# Altium integrated library TI Data Converters Digital to Analog Converter.IntLib: 1533 symbols (part 32 of 99)
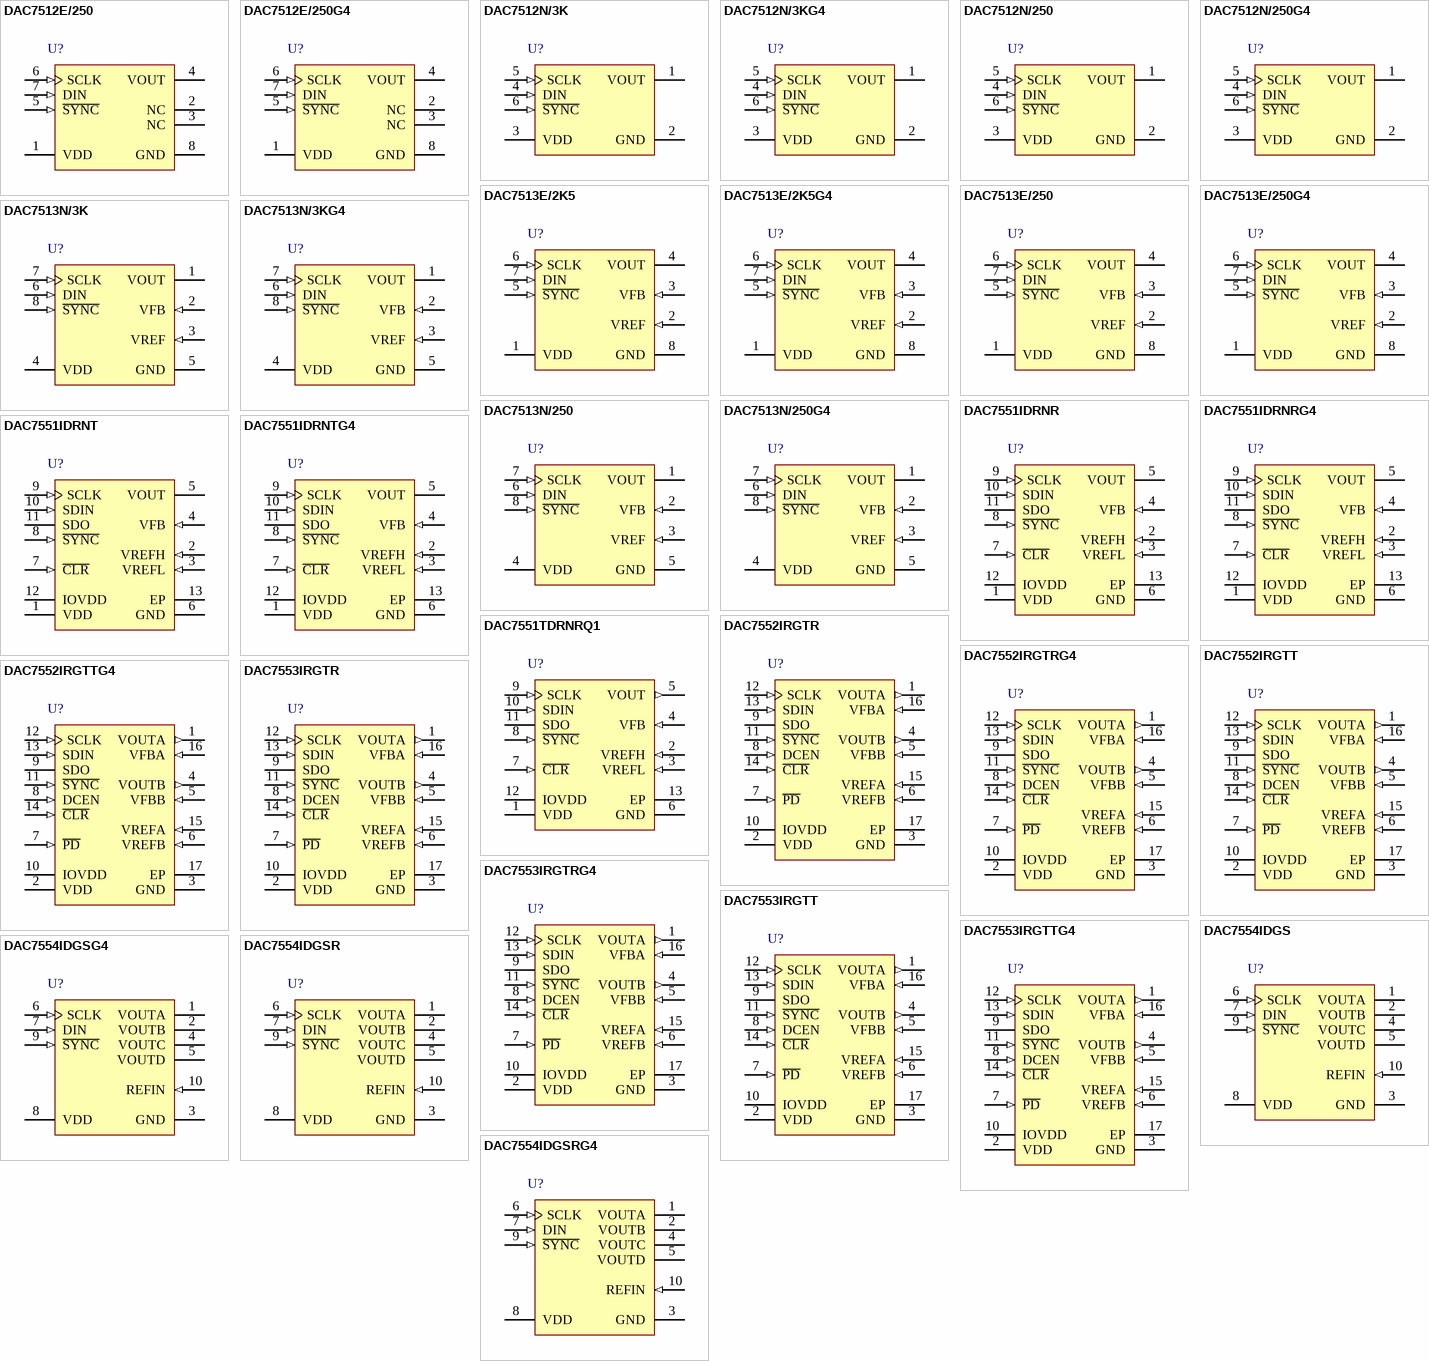
[diagram p104: symbols DAC7512E/250 to DAC7554IDGSRG4]

## DAC7551IDRNR
designator U?
12-Bit, Ultralow Glitch, Voltage Output DAC, -40 to 105 degC, 12-pin SON (DRN12), Green (RoHS & no Sb/Br); Manufacturer: Texas Instruments; PartNumber: DAC7551IDRNR; DAC Channels: 1; DNL(Max)(+/-LSB): 0.5; Interface: Serial SPI; Power Consumption(Typ)(mW): 0.27; Resolution(Bits): 12; Settling Time(us): 5; SubFamily: Precision DAC (=<10MSPS); DatasheetVersion: SLAS441E; PackageVersion: 4205915/B, 05/2005; PackageReference: DRN12-2300X900TP; PackageDescription: 12-Pin Plastic Small Outline, Body 3 x 2 mm, Pitch 0.5 mm; Supplier 1: Digi-Key; Supplier Part Number 1: DAC7551IDRNR-ND; Supplier 2: Mouser; Supplier Part Number 2: 595-DAC7551IDRNR; Eco-Plan: Green (RoHS & no Sb/Br); INL(Max)(+/-LSB): 1; Mounting Technology: Surface Mount; Code_JEDEC: MO-229; ComponentLink1Description: Manufacturer URL; ComponentLink1URL: http://www.ti.com/; ComponentLink2Description: Datasheet; ComponentLink2URL: http://www.ti.com/general/docs/lit/getliterature.tsp?genericPartNumber=DAC7551&fileType=pdf; ComponentLink3Description: Package Specification; ComponentLink3URL: http://www.ti.com/litv/pdf/mpds165a
footprint TI-DRN12-2300X900TP_V (SON, 12-Leads, Body 3x2mm, Pitch 0.5mm, Thermal Pad 2.3x0.9mm)
pins: 1 VDD (power) "Analog voltage supply input", 2 VREFH (in) "Positive reference voltage input", 3 VREFL (in) "Negative reference voltage input", 4 VFB (in) "DAC amplifier sense input.", 5 VOUT (hiz) "Analog output voltage from DAC", 6 GND (power) "Ground.", 7 ~{CLR} (in) "Asynchronous input to clear the DAC registers. When C\L\R\ is low, the DAC register is set to 000h and the output voltage to 0V.", 8 ~{SYNC} (in) "Frame synchronization input. The falling edge of the S\Y\N\C\ pulse indicates the start of a serial data frame shifted out to the DAC7551.", 9 SCLK (in) "Serial clock input", 10 SDIN (in) "Serial data input", 11 SDO (hiz) "Serial data output", 12 IOVDD (power) "I/O voltage supply input", 13 EP (power) "Thermal pad should be connected to GND"

## DAC7551IDRNRG4
designator U?
12-Bit, Ultralow Glitch, Voltage Output DAC, -40 to 105 degC, 12-pin SON (DRN12), Green (RoHS & no Sb/Br); Manufacturer: Texas Instruments; PartNumber: DAC7551IDRNRG4; DAC Channels: 1; DNL(Max)(+/-LSB): 0.5; Interface: Serial SPI; Power Consumption(Typ)(mW): 0.27; Resolution(Bits): 12; Settling Time(us): 5; SubFamily: Precision DAC (=<10MSPS); DatasheetVersion: SLAS441E; PackageVersion: 4205915/B, 05/2005; PackageReference: DRN12-2300X900TP; PackageDescription: 12-Pin Plastic Small Outline, Body 3 x 2 mm, Pitch 0.5 mm; Supplier 1: Digi-Key; Supplier Part Number 1: DAC7551IDRNRG4-ND; Supplier 2: Mouser; Supplier Part Number 2: 595-DAC7551IDRNRG4; Eco-Plan: Green (RoHS & no Sb/Br); INL(Max)(+/-LSB): 1; Mounting Technology: Surface Mount; Code_JEDEC: MO-229; ComponentLink1Description: Manufacturer URL; ComponentLink1URL: http://www.ti.com/; ComponentLink2Description: Datasheet; ComponentLink2URL: http://www.ti.com/general/docs/lit/getliterature.tsp?genericPartNumber=DAC7551&fileType=pdf; ComponentLink3Description: Package Specification; ComponentLink3URL: http://www.ti.com/litv/pdf/mpds165a
footprint TI-DRN12-2300X900TP_V (SON, 12-Leads, Body 3x2mm, Pitch 0.5mm, Thermal Pad 2.3x0.9mm)
pins: 1 VDD (power) "Analog voltage supply input", 2 VREFH (in) "Positive reference voltage input", 3 VREFL (in) "Negative reference voltage input", 4 VFB (in) "DAC amplifier sense input.", 5 VOUT (hiz) "Analog output voltage from DAC", 6 GND (power) "Ground.", 7 ~{CLR} (in) "Asynchronous input to clear the DAC registers. When C\L\R\ is low, the DAC register is set to 000h and the output voltage to 0V.", 8 ~{SYNC} (in) "Frame synchronization input. The falling edge of the S\Y\N\C\ pulse indicates the start of a serial data frame shifted out to the DAC7551.", 9 SCLK (in) "Serial clock input", 10 SDIN (in) "Serial data input", 11 SDO (hiz) "Serial data output", 12 IOVDD (power) "I/O voltage supply input", 13 EP (power) "Thermal pad should be connected to GND"

## DAC7551IDRNT
designator U?
12-Bit, Ultralow Glitch, Voltage Output DAC, -40 to 105 degC, 12-pin SON (DRN12), Green (RoHS & no Sb/Br); Manufacturer: Texas Instruments; PartNumber: DAC7551IDRNT; DAC Channels: 1; DNL(Max)(+/-LSB): 0.5; Interface: Serial SPI; Power Consumption(Typ)(mW): 0.27; Resolution(Bits): 12; Settling Time(us): 5; SubFamily: Precision DAC (=<10MSPS); DatasheetVersion: SLAS441E; PackageVersion: 4205915/B, 05/2005; PackageReference: DRN12-2300X900TP; PackageDescription: 12-Pin Plastic Small Outline, Body 3 x 2 mm, Pitch 0.5 mm; Supplier 1: Digi-Key; Supplier Part Number 1: 296-18583-2-ND; Supplier 2: Digi-Key; Supplier Part Number 2: 296-18583-1-ND; Supplier 3: Digi-Key; Supplier Part Number 3: 296-18583-6-ND; Supplier 4: Newark; Supplier Part Number 4: 60K9170; Supplier 5: Mouser; Supplier Part Number 5: 595-DAC7551IDRNT; Eco-Plan: Green (RoHS & no Sb/Br); INL(Max)(+/-LSB): 1; Mounting Technology: Surface Mount; Code_JEDEC: MO-229; ComponentLink1Description: Manufacturer URL; ComponentLink1URL: http://www.ti.com/; ComponentLink2Description: Datasheet; ComponentLink2URL: http://www.ti.com/general/docs/lit/getliterature.tsp?genericPartNumber=DAC7551&fileType=pdf; ComponentLink3Description: Package Specification; ComponentLink3URL: http://www.ti.com/litv/pdf/mpds165a
footprint TI-DRN12-2300X900TP_V (SON, 12-Leads, Body 3x2mm, Pitch 0.5mm, Thermal Pad 2.3x0.9mm)
pins: 1 VDD (power) "Analog voltage supply input", 2 VREFH (in) "Positive reference voltage input", 3 VREFL (in) "Negative reference voltage input", 4 VFB (in) "DAC amplifier sense input.", 5 VOUT (hiz) "Analog output voltage from DAC", 6 GND (power) "Ground.", 7 ~{CLR} (in) "Asynchronous input to clear the DAC registers. When C\L\R\ is low, the DAC register is set to 000h and the output voltage to 0V.", 8 ~{SYNC} (in) "Frame synchronization input. The falling edge of the S\Y\N\C\ pulse indicates the start of a serial data frame shifted out to the DAC7551.", 9 SCLK (in) "Serial clock input", 10 SDIN (in) "Serial data input", 11 SDO (hiz) "Serial data output", 12 IOVDD (power) "I/O voltage supply input", 13 EP (power) "Thermal pad should be connected to GND"

## DAC7551IDRNTG4
designator U?
12-Bit, Ultralow Glitch, Voltage Output DAC, -40 to 105 degC, 12-pin SON (DRN12), Green (RoHS & no Sb/Br); Manufacturer: Texas Instruments; PartNumber: DAC7551IDRNTG4; DAC Channels: 1; DNL(Max)(+/-LSB): 0.5; Interface: Serial SPI; Power Consumption(Typ)(mW): 0.27; Resolution(Bits): 12; Settling Time(us): 5; SubFamily: Precision DAC (=<10MSPS); DatasheetVersion: SLAS441E; PackageVersion: 4205915/B, 05/2005; PackageReference: DRN12-2300X900TP; PackageDescription: 12-Pin Plastic Small Outline, Body 3 x 2 mm, Pitch 0.5 mm; Supplier 1: Digi-Key; Supplier Part Number 1: DAC7551IDRNTG4-ND; Supplier 2: Farnell; Supplier Part Number 2: 1379267; Supplier 3: Newark; Supplier Part Number 3: 61M5732; Supplier 4: Mouser; Supplier Part Number 4: 595-DAC7551IDRNTG4; Eco-Plan: Green (RoHS & no Sb/Br); INL(Max)(+/-LSB): 1; Mounting Technology: Surface Mount; Code_JEDEC: MO-229; ComponentLink1Description: Manufacturer URL; ComponentLink1URL: http://www.ti.com/; ComponentLink2Description: Datasheet; ComponentLink2URL: http://www.ti.com/general/docs/lit/getliterature.tsp?genericPartNumber=DAC7551&fileType=pdf; ComponentLink3Description: Package Specification; ComponentLink3URL: http://www.ti.com/litv/pdf/mpds165a
footprint TI-DRN12-2300X900TP_V (SON, 12-Leads, Body 3x2mm, Pitch 0.5mm, Thermal Pad 2.3x0.9mm)
pins: 1 VDD (power) "Analog voltage supply input", 2 VREFH (in) "Positive reference voltage input", 3 VREFL (in) "Negative reference voltage input", 4 VFB (in) "DAC amplifier sense input.", 5 VOUT (hiz) "Analog output voltage from DAC", 6 GND (power) "Ground.", 7 ~{CLR} (in) "Asynchronous input to clear the DAC registers. When C\L\R\ is low, the DAC register is set to 000h and the output voltage to 0V.", 8 ~{SYNC} (in) "Frame synchronization input. The falling edge of the S\Y\N\C\ pulse indicates the start of a serial data frame shifted out to the DAC7551.", 9 SCLK (in) "Serial clock input", 10 SDIN (in) "Serial data input", 11 SDO (hiz) "Serial data output", 12 IOVDD (power) "I/O voltage supply input", 13 EP (power) "Thermal pad should be connected to GND"

## DAC7551TDRNRQ1
designator U?
Automotive Catalog 12-Bit, Ultralow Glitch, Voltage Output DAC, -40 to 105 degC, 12-pin SON (DRN12), Green (RoHS & no Sb/Br); Manufacturer: Texas Instruments; PartNumber: DAC7551TDRNRQ1; DAC Channels: 1; DNL(Max)(+/-LSB): 0.5; Interface: Serial SPI; Power Consumption(Typ)(mW): 0.27; Resolution(Bits): 12; Settling Time(us): 5; SubFamily: Precision DAC (=<10MSPS); DatasheetVersion: SLAS767; PackageVersion: 4205915/B, 05/2005; PackageReference: DRN12-2300X900TP; PackageDescription: 12-Pin Plastic Small Outline, Body 3 x 2 mm, Pitch 0.5 mm; Supplier 1: Digi-Key; Supplier Part Number 1: 296-28954-2-ND; Supplier 2: Digi-Key; Supplier Part Number 2: 296-28954-1-ND; Supplier 3: Digi-Key; Supplier Part Number 3: 296-28954-6-ND; Supplier 4: Mouser; Supplier Part Number 4: 595-DAC7551TDRNRQ1; Eco-Plan: Green (RoHS & no Sb/Br); INL(Max)(+/-LSB): 1; Mounting Technology: Surface Mount; Code_JEDEC: MO-229; ComponentLink1Description: Manufacturer URL; ComponentLink1URL: http://www.ti.com/; ComponentLink2Description: Datasheet; ComponentLink2URL: http://www.ti.com/general/docs/lit/getliterature.tsp?genericPartNumber=DAC7551-Q1&fileType=pdf; ComponentLink3Description: Package Specification; ComponentLink3URL: http://www.ti.com/litv/pdf/mpds165a
footprint TI-DRN12-2300X900TP_V (SON, 12-Leads, Body 3x2mm, Pitch 0.5mm, Thermal Pad 2.3x0.9mm)
pins: 1 VDD (power) "Analog voltage supply input", 2 VREFH (in) "Positive reference voltage input", 3 VREFL (in) "Negative reference voltage input", 4 VFB (in) "DAC amplifier sense input.", 5 VOUT (out) "Analog output voltage from DAC", 6 GND (power) "Ground.", 7 ~{CLR} (in) "Asynchronous input to clear the DAC registers. When C\L\R\ is low, the DAC register is set to 000h and the output voltage to 0V.", 8 ~{SYNC} (in) "Frame synchronization input. The falling edge of the S\Y\N\C\ pulse indicates the start of a serial data frame shifted out to the DAC7551.", 9 SCLK (in) "Serial clock input", 10 SDIN (in) "Serial data input", 11 SDO (hiz) "Serial data output", 12 IOVDD (power) "I/O voltage supply input", 13 EP (power) "Thermal pad should be connected to GND"

## DAC7552IRGTR
designator U?
12-Bit, Dual, Ultralow Glitch, Voltage Output DAC, -40 to 105 degC, 16-pin QFN (RGT), Green (RoHS & no Sb/Br); Manufacturer: Texas Instruments; PartNumber: DAC7552IRGTR; DAC Channels: 2; DNL(Max)(+/-LSB): 0.5; INL(Max)(+/-LSB): 1; Interface: Serial SPI; Power Consumption(Typ)(mW): 0.675; Resolution(Bits): 12; Settling Time(us): 5; SubFamily: Precision DAC (=<10MSPS); DatasheetVersion: SLAS442D; PackageVersion: 4203495/H, 10/2011; PackageReference: RGT16-1700X1700TP; PackageDescription: 16-Pin Plastic Flat Pack, Body 3 x 3 mm, Pitch 0.5 mm; Supplier 1: Digi-Key; Supplier Part Number 1: 296-18222-2-ND; Supplier 2: Digi-Key; Supplier Part Number 2: 296-18222-1-ND; Supplier 3: Digi-Key; Supplier Part Number 3: 296-18222-6-ND; Supplier 4: Farnell; Supplier Part Number 4: 1575123; Supplier 5: Newark; Supplier Part Number 5: 43K3290; Supplier 6: Mouser; Supplier Part Number 6: 595-DAC7552IRGTR; Eco-Plan: Green (RoHS & no Sb/Br); Mounting Technology: Surface Mount; Code_JEDEC: MO-220; ComponentLink1Description: Manufacturer URL; ComponentLink1URL: http://www.ti.com/; ComponentLink2Description: Datasheet; ComponentLink2URL: http://www.ti.com/general/docs/lit/getliterature.tsp?genericPartNumber=DAC7552&fileType=pdf; ComponentLink3Description: Package Specification; ComponentLink3URL: http://www.ti.com/litv/pdf/mpqf119g
footprint TI-RGT16-1700X1700TP_V (QFN, 16-Leads, Body 3x3mm, Pitch 0.5mm, Thermal Pad 1.7x1.7mm)
pins: 1 VOUTA (out) "Analog output voltage from DAC A", 2 VDD (power) "Analog voltage supply input", 3 GND (power) "Ground", 4 VOUTB (out) "Analog output voltage from DAC B", 5 VFBB (in) "DAC B amplifier sense input. (For voltage output operation, connect to VOUTB externally.)", 6 VREFB (in) "Positive reference voltage input for DAC B", 7 ~{PD} (in) "Power-down", 8 DCEN (in) "Daisy-chain enable", 9 SDO (hiz) "Serial data output", 10 IOVDD (power) "I/O voltage supply input. (For single supply operation, connect to VDD externally.)", 11 ~{SYNC} (in) "Frame synchronization input. The falling edge of the S\Y\N\C\ pulse indicates the start of a serial data frame shifted out to the DAC7552", 12 SCLK (in) "Serial clock input", 13 SDIN (in) "Serial data input", 14 ~{CLR} (in) "Asynchronous input to clear the DAC registers. When C\L\R\ is low, the DAC registers are set to 000H and the output voltage to 0 V.", 15 VREFA (in) "Positive reference voltage input for DAC A", 16 VFBA (in) "DAC A amplifier sense input. (For voltage output operation, connect to VOUTA externally.)", 17 EP (power) "Thermal pad should be connected to GND."

## DAC7552IRGTRG4
designator U?
12-Bit, Dual, Ultralow Glitch, Voltage Output DAC, -40 to 105 degC, 16-pin QFN (RGT), Green (RoHS & no Sb/Br); Manufacturer: Texas Instruments; PartNumber: DAC7552IRGTRG4; DAC Channels: 2; DNL(Max)(+/-LSB): 0.5; INL(Max)(+/-LSB): 1; Interface: Serial SPI; Power Consumption(Typ)(mW): 0.675; Resolution(Bits): 12; Settling Time(us): 5; SubFamily: Precision DAC (=<10MSPS); DatasheetVersion: SLAS442D; PackageVersion: 4203495/H, 10/2011; PackageReference: RGT16-1700X1700TP; PackageDescription: 16-Pin Plastic Flat Pack, Body 3 x 3 mm, Pitch 0.5 mm; Supplier 1: Digi-Key; Supplier Part Number 1: DAC7552IRGTRG4-ND; Supplier 2: Mouser; Supplier Part Number 2: 595-DAC7552IRGTRG4; Eco-Plan: Green (RoHS & no Sb/Br); Mounting Technology: Surface Mount; Code_JEDEC: MO-220; ComponentLink1Description: Manufacturer URL; ComponentLink1URL: http://www.ti.com/; ComponentLink2Description: Datasheet; ComponentLink2URL: http://www.ti.com/general/docs/lit/getliterature.tsp?genericPartNumber=DAC7552&fileType=pdf; ComponentLink3Description: Package Specification; ComponentLink3URL: http://www.ti.com/litv/pdf/mpqf119g
footprint TI-RGT16-1700X1700TP_V (QFN, 16-Leads, Body 3x3mm, Pitch 0.5mm, Thermal Pad 1.7x1.7mm)
pins: 1 VOUTA (out) "Analog output voltage from DAC A", 2 VDD (power) "Analog voltage supply input", 3 GND (power) "Ground", 4 VOUTB (out) "Analog output voltage from DAC B", 5 VFBB (in) "DAC B amplifier sense input. (For voltage output operation, connect to VOUTB externally.)", 6 VREFB (in) "Positive reference voltage input for DAC B", 7 ~{PD} (in) "Power-down", 8 DCEN (in) "Daisy-chain enable", 9 SDO (hiz) "Serial data output", 10 IOVDD (power) "I/O voltage supply input. (For single supply operation, connect to VDD externally.)", 11 ~{SYNC} (in) "Frame synchronization input. The falling edge of the S\Y\N\C\ pulse indicates the start of a serial data frame shifted out to the DAC7552", 12 SCLK (in) "Serial clock input", 13 SDIN (in) "Serial data input", 14 ~{CLR} (in) "Asynchronous input to clear the DAC registers. When C\L\R\ is low, the DAC registers are set to 000H and the output voltage to 0 V.", 15 VREFA (in) "Positive reference voltage input for DAC A", 16 VFBA (in) "DAC A amplifier sense input. (For voltage output operation, connect to VOUTA externally.)", 17 EP (power) "Thermal pad should be connected to GND."

## DAC7552IRGTT
designator U?
12-Bit, Dual, Ultralow Glitch, Voltage Output DAC, -40 to 105 degC, 16-pin QFN (RGT), Green (RoHS & no Sb/Br); Manufacturer: Texas Instruments; PartNumber: DAC7552IRGTT; DAC Channels: 2; DNL(Max)(+/-LSB): 0.5; INL(Max)(+/-LSB): 1; Interface: Serial SPI; Power Consumption(Typ)(mW): 0.675; Resolution(Bits): 12; Settling Time(us): 5; SubFamily: Precision DAC (=<10MSPS); DatasheetVersion: SLAS442D; PackageVersion: 4203495/H, 10/2011; PackageReference: RGT16-1700X1700TP; PackageDescription: 16-Pin Plastic Flat Pack, Body 3 x 3 mm, Pitch 0.5 mm; Supplier 1: Digi-Key; Supplier Part Number 1: 296-32086-2-ND; Supplier 2: Digi-Key; Supplier Part Number 2: 296-32086-1-ND; Supplier 3: Digi-Key; Supplier Part Number 3: 296-32086-6-ND; Supplier 4: Newark; Supplier Part Number 4: 43K3291; Supplier 5: Mouser; Supplier Part Number 5: 595-DAC7552IRGTT; Eco-Plan: Green (RoHS & no Sb/Br); Mounting Technology: Surface Mount; Code_JEDEC: MO-220; ComponentLink1Description: Manufacturer URL; ComponentLink1URL: http://www.ti.com/; ComponentLink2Description: Datasheet; ComponentLink2URL: http://www.ti.com/general/docs/lit/getliterature.tsp?genericPartNumber=DAC7552&fileType=pdf; ComponentLink3Description: Package Specification; ComponentLink3URL: http://www.ti.com/litv/pdf/mpqf119g
footprint TI-RGT16-1700X1700TP_V (QFN, 16-Leads, Body 3x3mm, Pitch 0.5mm, Thermal Pad 1.7x1.7mm)
pins: 1 VOUTA (out) "Analog output voltage from DAC A", 2 VDD (power) "Analog voltage supply input", 3 GND (power) "Ground", 4 VOUTB (out) "Analog output voltage from DAC B", 5 VFBB (in) "DAC B amplifier sense input. (For voltage output operation, connect to VOUTB externally.)", 6 VREFB (in) "Positive reference voltage input for DAC B", 7 ~{PD} (in) "Power-down", 8 DCEN (in) "Daisy-chain enable", 9 SDO (hiz) "Serial data output", 10 IOVDD (power) "I/O voltage supply input. (For single supply operation, connect to VDD externally.)", 11 ~{SYNC} (in) "Frame synchronization input. The falling edge of the S\Y\N\C\ pulse indicates the start of a serial data frame shifted out to the DAC7552", 12 SCLK (in) "Serial clock input", 13 SDIN (in) "Serial data input", 14 ~{CLR} (in) "Asynchronous input to clear the DAC registers. When C\L\R\ is low, the DAC registers are set to 000H and the output voltage to 0 V.", 15 VREFA (in) "Positive reference voltage input for DAC A", 16 VFBA (in) "DAC A amplifier sense input. (For voltage output operation, connect to VOUTA externally.)", 17 EP (power) "Thermal pad should be connected to GND."

## DAC7552IRGTTG4
designator U?
12-Bit, Dual, Ultralow Glitch, Voltage Output DAC, -40 to 105 degC, 16-pin QFN (RGT), Green (RoHS & no Sb/Br); Manufacturer: Texas Instruments; PartNumber: DAC7552IRGTTG4; DAC Channels: 2; DNL(Max)(+/-LSB): 0.5; INL(Max)(+/-LSB): 1; Interface: Serial SPI; Power Consumption(Typ)(mW): 0.675; Resolution(Bits): 12; Settling Time(us): 5; SubFamily: Precision DAC (=<10MSPS); DatasheetVersion: SLAS442D; PackageVersion: 4203495/H, 10/2011; PackageReference: RGT16-1700X1700TP; PackageDescription: 16-Pin Plastic Flat Pack, Body 3 x 3 mm, Pitch 0.5 mm; Supplier 1: Digi-Key; Supplier Part Number 1: DAC7552IRGTTG4-ND; Supplier 2: Newark; Supplier Part Number 2: 58K5652; Supplier 3: Mouser; Supplier Part Number 3: 595-DAC7552IRGTTG4; Eco-Plan: Green (RoHS & no Sb/Br); Mounting Technology: Surface Mount; Code_JEDEC: MO-220; ComponentLink1Description: Manufacturer URL; ComponentLink1URL: http://www.ti.com/; ComponentLink2Description: Datasheet; ComponentLink2URL: http://www.ti.com/general/docs/lit/getliterature.tsp?genericPartNumber=DAC7552&fileType=pdf; ComponentLink3Description: Package Specification; ComponentLink3URL: http://www.ti.com/litv/pdf/mpqf119g
footprint TI-RGT16-1700X1700TP_V (QFN, 16-Leads, Body 3x3mm, Pitch 0.5mm, Thermal Pad 1.7x1.7mm)
pins: 1 VOUTA (out) "Analog output voltage from DAC A", 2 VDD (power) "Analog voltage supply input", 3 GND (power) "Ground", 4 VOUTB (out) "Analog output voltage from DAC B", 5 VFBB (in) "DAC B amplifier sense input. (For voltage output operation, connect to VOUTB externally.)", 6 VREFB (in) "Positive reference voltage input for DAC B", 7 ~{PD} (in) "Power-down", 8 DCEN (in) "Daisy-chain enable", 9 SDO (hiz) "Serial data output", 10 IOVDD (power) "I/O voltage supply input. (For single supply operation, connect to VDD externally.)", 11 ~{SYNC} (in) "Frame synchronization input. The falling edge of the S\Y\N\C\ pulse indicates the start of a serial data frame shifted out to the DAC7552", 12 SCLK (in) "Serial clock input", 13 SDIN (in) "Serial data input", 14 ~{CLR} (in) "Asynchronous input to clear the DAC registers. When C\L\R\ is low, the DAC registers are set to 000H and the output voltage to 0 V.", 15 VREFA (in) "Positive reference voltage input for DAC A", 16 VFBA (in) "DAC A amplifier sense input. (For voltage output operation, connect to VOUTA externally.)", 17 EP (power) "Thermal pad should be connected to GND."

## DAC7553IRGTR
designator U?
12-Bit, Dual, Ultralow Glitch, Voltage Output DAC, -40 to 105 degC, 16-pin QFN (RGT), Green (RoHS & no Sb/Br); Manufacturer: Texas Instruments; PartNumber: DAC7553IRGTR; DAC Channels: 2; DNL(Max)(+/-LSB): 0.5; INL(Max)(+/-LSB): 1; Interface: Serial SPI; Power Consumption(Typ)(mW): 0.675; Resolution(Bits): 12; Settling Time(us): 5; SubFamily: Precision DAC (=<10MSPS); DatasheetVersion: SLAS477; PackageVersion: 4203495/H, 10/2011; PackageReference: RGT16-1700X1700TP; PackageDescription: 16-Pin Plastic Flat Pack, Body 3 x 3 mm, Pitch 0.5 mm; Supplier 1: Digi-Key; Supplier Part Number 1: DAC7553IRGTR-ND; Supplier 2: Newark; Supplier Part Number 2: 60K9171; Supplier 3: Mouser; Supplier Part Number 3: 595-DAC7553IRGTR; Eco-Plan: Green (RoHS & no Sb/Br); Mounting Technology: Surface Mount; Code_JEDEC: MO-220; ComponentLink1Description: Manufacturer URL; ComponentLink1URL: http://www.ti.com/; ComponentLink2Description: Datasheet; ComponentLink2URL: http://www.ti.com/general/docs/lit/getliterature.tsp?genericPartNumber=DAC7553&fileType=pdf; ComponentLink3Description: Package Specification; ComponentLink3URL: http://www.ti.com/litv/pdf/mpqf119g
footprint TI-RGT16-1700X1700TP_V (QFN, 16-Leads, Body 3x3mm, Pitch 0.5mm, Thermal Pad 1.7x1.7mm)
pins: 1 VOUTA (out) "Analog output voltage from DAC A", 2 VDD (power) "Analog voltage supply input", 3 GND (power) "Ground", 4 VOUTB (out) "Analog output voltage from DAC B", 5 VFBB (in) "DAC B amplifier sense input. (For voltage output operation, connect to VOUTB externally.)", 6 VREFB (in) "Positive reference voltage input for DAC B", 7 ~{PD} (in) "Power-down", 8 DCEN (in) "Daisy-chain enable", 9 SDO (hiz) "Serial data output", 10 IOVDD (power) "I/O voltage supply input. (For single supply operation, connect to VDD externally.)", 11 ~{SYNC} (in) "Frame synchronization input. The falling edge of the S\Y\N\C\ pulse indicates the start of a serial data frame shifted out to the DAC7553", 12 SCLK (in) "Serial clock input", 13 SDIN (in) "Serial data input", 14 ~{CLR} (in) "Asynchronous input to clear the DAC registers. When C\L\R\ is low, the DAC registers are set to 000H and the output voltage to midscale voltage.", 15 VREFA (in) "Positive reference voltage input for DAC A", 16 VFBA (in) "DAC A amplifier sense input.", 17 EP

## DAC7553IRGTRG4
designator U?
12-Bit, Dual, Ultralow Glitch, Voltage Output DAC, -40 to 105 degC, 16-pin QFN (RGT), Green (RoHS & no Sb/Br); Manufacturer: Texas Instruments; PartNumber: DAC7553IRGTRG4; DAC Channels: 2; DNL(Max)(+/-LSB): 0.5; INL(Max)(+/-LSB): 1; Interface: Serial SPI; Power Consumption(Typ)(mW): 0.675; Resolution(Bits): 12; Settling Time(us): 5; SubFamily: Precision DAC (=<10MSPS); DatasheetVersion: SLAS477; PackageVersion: 4203495/H, 10/2011; PackageReference: RGT16-1700X1700TP; PackageDescription: 16-Pin Plastic Flat Pack, Body 3 x 3 mm, Pitch 0.5 mm; Supplier 1: Digi-Key; Supplier Part Number 1: DAC7553IRGTRG4-ND; Supplier 2: Mouser; Supplier Part Number 2: 595-DAC7553IRGTRG4; Eco-Plan: Green (RoHS & no Sb/Br); Mounting Technology: Surface Mount; Code_JEDEC: MO-220; ComponentLink1Description: Manufacturer URL; ComponentLink1URL: http://www.ti.com/; ComponentLink2Description: Datasheet; ComponentLink2URL: http://www.ti.com/general/docs/lit/getliterature.tsp?genericPartNumber=DAC7553&fileType=pdf; ComponentLink3Description: Package Specification; ComponentLink3URL: http://www.ti.com/litv/pdf/mpqf119g
footprint TI-RGT16-1700X1700TP_V (QFN, 16-Leads, Body 3x3mm, Pitch 0.5mm, Thermal Pad 1.7x1.7mm)
pins: 1 VOUTA (out) "Analog output voltage from DAC A", 2 VDD (power) "Analog voltage supply input", 3 GND (power) "Ground", 4 VOUTB (out) "Analog output voltage from DAC B", 5 VFBB (in) "DAC B amplifier sense input. (For voltage output operation, connect to VOUTB externally.)", 6 VREFB (in) "Positive reference voltage input for DAC B", 7 ~{PD} (in) "Power-down", 8 DCEN (in) "Daisy-chain enable", 9 SDO (hiz) "Serial data output", 10 IOVDD (power) "I/O voltage supply input. (For single supply operation, connect to VDD externally.)", 11 ~{SYNC} (in) "Frame synchronization input. The falling edge of the S\Y\N\C\ pulse indicates the start of a serial data frame shifted out to the DAC7553", 12 SCLK (in) "Serial clock input", 13 SDIN (in) "Serial data input", 14 ~{CLR} (in) "Asynchronous input to clear the DAC registers. When C\L\R\ is low, the DAC registers are set to 000H and the output voltage to midscale voltage.", 15 VREFA (in) "Positive reference voltage input for DAC A", 16 VFBA (in) "DAC A amplifier sense input.", 17 EP

## DAC7553IRGTT
designator U?
12-Bit, Dual, Ultralow Glitch, Voltage Output DAC, -40 to 105 degC, 16-pin QFN (RGT), Green (RoHS & no Sb/Br); Manufacturer: Texas Instruments; PartNumber: DAC7553IRGTT; DAC Channels: 2; DNL(Max)(+/-LSB): 0.5; INL(Max)(+/-LSB): 1; Interface: Serial SPI; Power Consumption(Typ)(mW): 0.675; Resolution(Bits): 12; Settling Time(us): 5; SubFamily: Precision DAC (=<10MSPS); DatasheetVersion: SLAS477; PackageVersion: 4203495/H, 10/2011; PackageReference: RGT16-1700X1700TP; PackageDescription: 16-Pin Plastic Flat Pack, Body 3 x 3 mm, Pitch 0.5 mm; Supplier 1: Digi-Key; Supplier Part Number 1: 296-18683-2-ND; Supplier 2: Digi-Key; Supplier Part Number 2: 296-18683-1-ND; Supplier 3: Digi-Key; Supplier Part Number 3: 296-18683-6-ND; Supplier 4: Newark; Supplier Part Number 4: 60K9172; Supplier 5: Mouser; Supplier Part Number 5: 595-DAC7553IRGTT; Eco-Plan: Green (RoHS & no Sb/Br); Mounting Technology: Surface Mount; Code_JEDEC: MO-220; ComponentLink1Description: Manufacturer URL; ComponentLink1URL: http://www.ti.com/; ComponentLink2Description: Datasheet; ComponentLink2URL: http://www.ti.com/general/docs/lit/getliterature.tsp?genericPartNumber=DAC7553&fileType=pdf; ComponentLink3Description: Package Specification; ComponentLink3URL: http://www.ti.com/litv/pdf/mpqf119g
footprint TI-RGT16-1700X1700TP_V (QFN, 16-Leads, Body 3x3mm, Pitch 0.5mm, Thermal Pad 1.7x1.7mm)
pins: 1 VOUTA (out) "Analog output voltage from DAC A", 2 VDD (power) "Analog voltage supply input", 3 GND (power) "Ground", 4 VOUTB (out) "Analog output voltage from DAC B", 5 VFBB (in) "DAC B amplifier sense input. (For voltage output operation, connect to VOUTB externally.)", 6 VREFB (in) "Positive reference voltage input for DAC B", 7 ~{PD} (in) "Power-down", 8 DCEN (in) "Daisy-chain enable", 9 SDO (hiz) "Serial data output", 10 IOVDD (power) "I/O voltage supply input. (For single supply operation, connect to VDD externally.)", 11 ~{SYNC} (in) "Frame synchronization input. The falling edge of the S\Y\N\C\ pulse indicates the start of a serial data frame shifted out to the DAC7553", 12 SCLK (in) "Serial clock input", 13 SDIN (in) "Serial data input", 14 ~{CLR} (in) "Asynchronous input to clear the DAC registers. When C\L\R\ is low, the DAC registers are set to 000H and the output voltage to midscale voltage.", 15 VREFA (in) "Positive reference voltage input for DAC A", 16 VFBA (in) "DAC A amplifier sense input.", 17 EP

## DAC7553IRGTTG4
designator U?
12-Bit, Dual, Ultralow Glitch, Voltage Output DAC, -40 to 105 degC, 16-pin QFN (RGT), Green (RoHS & no Sb/Br); Manufacturer: Texas Instruments; PartNumber: DAC7553IRGTTG4; DAC Channels: 2; DNL(Max)(+/-LSB): 0.5; INL(Max)(+/-LSB): 1; Interface: Serial SPI; Power Consumption(Typ)(mW): 0.675; Resolution(Bits): 12; Settling Time(us): 5; SubFamily: Precision DAC (=<10MSPS); DatasheetVersion: SLAS477; PackageVersion: 4203495/H, 10/2011; PackageReference: RGT16-1700X1700TP; PackageDescription: 16-Pin Plastic Flat Pack, Body 3 x 3 mm, Pitch 0.5 mm; Supplier 1: Digi-Key; Supplier Part Number 1: DAC7553IRGTTG4-ND; Supplier 2: Mouser; Supplier Part Number 2: 595-DAC7553IRGTTG4; Eco-Plan: Green (RoHS & no Sb/Br); Mounting Technology: Surface Mount; Code_JEDEC: MO-220; ComponentLink1Description: Manufacturer URL; ComponentLink1URL: http://www.ti.com/; ComponentLink2Description: Datasheet; ComponentLink2URL: http://www.ti.com/general/docs/lit/getliterature.tsp?genericPartNumber=DAC7553&fileType=pdf; ComponentLink3Description: Package Specification; ComponentLink3URL: http://www.ti.com/litv/pdf/mpqf119g
footprint TI-RGT16-1700X1700TP_V (QFN, 16-Leads, Body 3x3mm, Pitch 0.5mm, Thermal Pad 1.7x1.7mm)
pins: 1 VOUTA (out) "Analog output voltage from DAC A", 2 VDD (power) "Analog voltage supply input", 3 GND (power) "Ground", 4 VOUTB (out) "Analog output voltage from DAC B", 5 VFBB (in) "DAC B amplifier sense input. (For voltage output operation, connect to VOUTB externally.)", 6 VREFB (in) "Positive reference voltage input for DAC B", 7 ~{PD} (in) "Power-down", 8 DCEN (in) "Daisy-chain enable", 9 SDO (hiz) "Serial data output", 10 IOVDD (power) "I/O voltage supply input. (For single supply operation, connect to VDD externally.)", 11 ~{SYNC} (in) "Frame synchronization input. The falling edge of the S\Y\N\C\ pulse indicates the start of a serial data frame shifted out to the DAC7553", 12 SCLK (in) "Serial clock input", 13 SDIN (in) "Serial data input", 14 ~{CLR} (in) "Asynchronous input to clear the DAC registers. When C\L\R\ is low, the DAC registers are set to 000H and the output voltage to midscale voltage.", 15 VREFA (in) "Positive reference voltage input for DAC A", 16 VFBA (in) "DAC A amplifier sense input.", 17 EP

## DAC7554IDGS
designator U?
Low-Power, Low-Glitch, 12-Bit DAC, -40 to 105 degC, 10-pin SOP (DGS10), Green (RoHS & no Sb/Br); Manufacturer: Texas Instruments; PartNumber: DAC7554IDGS; DAC Channels: 4; DNL(Max)(+/-LSB): 0.5; INL(Max)(+/-LSB): 1; Interface: Serial SPI; Power Consumption(Typ)(mW): 3.5; Resolution(Bits): 12; Settling Time(us): 5; SubFamily: Precision DAC (=<10MSPS); DatasheetVersion: SLAS399A; PackageVersion: 4073272/C, 02/2004; PackageReference: DGS10; PackageDescription: 10-Pin Plastic Small Outline, Body 3 x 3 mm, Pitch 0.5 mm; Supplier 1: Digi-Key; Supplier Part Number 1: 296-17551-5-ND; Supplier 2: Farnell; Supplier Part Number 2: 1470410; Supplier 3: Newark; Supplier Part Number 3: 65J4377; Supplier 4: Mouser; Supplier Part Number 4: 595-DAC7554IDGS; Eco-Plan: Green (RoHS & no Sb/Br); Mounting Technology: Surface Mount; Code_JEDEC: MO-153; ComponentLink1Description: Manufacturer URL; ComponentLink1URL: http://www.ti.com/; ComponentLink2Description: Datasheet; ComponentLink2URL: http://www.ti.com/general/docs/lit/getliterature.tsp?genericPartNumber=DAC7554&fileType=pdf; ComponentLink3Description: Package Specification; ComponentLink3URL: http://www.ti.com/lit/ml/mpds035b/mpds035b.pdf
footprint TI-DGS10_N (SOP, 10-Leads, Body 3x3mm, Pitch 0.5mm, IPC Medium Density)
footprint TI-DGS10_L (SOP, 10-Leads, Body 3x3mm, Pitch 0.5mm, IPC High Density)
footprint TI-DGS10_M (SOP, 10-Leads, Body 3x3mm, Pitch 0.5mm, IPC Low Density)
pins: 1 VOUTA (hiz) "Analog output voltage from DAC A", 2 VOUTB (hiz) "Analog output voltage from DAC B", 3 GND (power) "Ground", 4 VOUTC (hiz) "Analog output voltage from DAC C", 5 VOUTD (hiz) "Analog output voltage from DAC D", 6 SCLK (in) "Serial clock input", 7 DIN (in) "Serial data input", 8 VDD (power) "Analog voltage supply input", 9 ~{SYNC} (in) "Frame synchronization input. The falling edge of the FS pulse indicates the start of a serial data frame shifted out to the DAC7554", 10 REFIN (in) "Analog input. External reference"

## DAC7554IDGSG4
designator U?
Low-Power, Low-Glitch, 12-Bit DAC, -40 to 105 degC, 10-pin SOP (DGS10), Green (RoHS & no Sb/Br); Manufacturer: Texas Instruments; PartNumber: DAC7554IDGSG4; DAC Channels: 4; DNL(Max)(+/-LSB): 0.5; INL(Max)(+/-LSB): 1; Interface: Serial SPI; Power Consumption(Typ)(mW): 3.5; Resolution(Bits): 12; Settling Time(us): 5; SubFamily: Precision DAC (=<10MSPS); DatasheetVersion: SLAS399A; PackageVersion: 4073272/C, 02/2004; PackageReference: DGS10; PackageDescription: 10-Pin Plastic Small Outline, Body 3 x 3 mm, Pitch 0.5 mm; Supplier 1: Digi-Key; Supplier Part Number 1: DAC7554IDGSG4-ND; Supplier 2: Farnell; Supplier Part Number 2: 1180122; Supplier 3: Newark; Supplier Part Number 3: 25M8870; Supplier 4: Newark; Supplier Part Number 4: 81K1784; Supplier 5: Mouser; Supplier Part Number 5: 595-DAC7554IDGSG4; Eco-Plan: Green (RoHS & no Sb/Br); Mounting Technology: Surface Mount; Code_JEDEC: MO-153; ComponentLink1Description: Manufacturer URL; ComponentLink1URL: http://www.ti.com/; ComponentLink2Description: Datasheet; ComponentLink2URL: http://www.ti.com/general/docs/lit/getliterature.tsp?genericPartNumber=DAC7554&fileType=pdf; ComponentLink3Description: Package Specification; ComponentLink3URL: http://www.ti.com/lit/ml/mpds035b/mpds035b.pdf
footprint TI-DGS10_N (SOP, 10-Leads, Body 3x3mm, Pitch 0.5mm, IPC Medium Density)
footprint TI-DGS10_L (SOP, 10-Leads, Body 3x3mm, Pitch 0.5mm, IPC High Density)
footprint TI-DGS10_M (SOP, 10-Leads, Body 3x3mm, Pitch 0.5mm, IPC Low Density)
pins: 1 VOUTA (hiz) "Analog output voltage from DAC A", 2 VOUTB (hiz) "Analog output voltage from DAC B", 3 GND (power) "Ground", 4 VOUTC (hiz) "Analog output voltage from DAC C", 5 VOUTD (hiz) "Analog output voltage from DAC D", 6 SCLK (in) "Serial clock input", 7 DIN (in) "Serial data input", 8 VDD (power) "Analog voltage supply input", 9 ~{SYNC} (in) "Frame synchronization input. The falling edge of the FS pulse indicates the start of a serial data frame shifted out to the DAC7554", 10 REFIN (in) "Analog input. External reference"

## DAC7554IDGSR
designator U?
Low-Power, Low-Glitch, 12-Bit DAC, -40 to 105 degC, 10-pin SOP (DGS10), Green (RoHS & no Sb/Br); Manufacturer: Texas Instruments; PartNumber: DAC7554IDGSR; DAC Channels: 4; DNL(Max)(+/-LSB): 0.5; INL(Max)(+/-LSB): 1; Interface: Serial SPI; Power Consumption(Typ)(mW): 3.5; Resolution(Bits): 12; Settling Time(us): 5; SubFamily: Precision DAC (=<10MSPS); DatasheetVersion: SLAS399A; PackageVersion: 4073272/C, 02/2004; PackageReference: DGS10; PackageDescription: 10-Pin Plastic Small Outline, Body 3 x 3 mm, Pitch 0.5 mm; Supplier 1: Digi-Key; Supplier Part Number 1: DAC7554IDGSR-ND; Supplier 2: Newark; Supplier Part Number 2: 65J4378; Supplier 3: Mouser; Supplier Part Number 3: 595-DAC7554IDGSR; Eco-Plan: Green (RoHS & no Sb/Br); Mounting Technology: Surface Mount; Code_JEDEC: MO-153; ComponentLink1Description: Manufacturer URL; ComponentLink1URL: http://www.ti.com/; ComponentLink2Description: Datasheet; ComponentLink2URL: http://www.ti.com/general/docs/lit/getliterature.tsp?genericPartNumber=DAC7554&fileType=pdf; ComponentLink3Description: Package Specification; ComponentLink3URL: http://www.ti.com/lit/ml/mpds035b/mpds035b.pdf
footprint TI-DGS10_N (SOP, 10-Leads, Body 3x3mm, Pitch 0.5mm, IPC Medium Density)
footprint TI-DGS10_L (SOP, 10-Leads, Body 3x3mm, Pitch 0.5mm, IPC High Density)
footprint TI-DGS10_M (SOP, 10-Leads, Body 3x3mm, Pitch 0.5mm, IPC Low Density)
pins: 1 VOUTA (hiz) "Analog output voltage from DAC A", 2 VOUTB (hiz) "Analog output voltage from DAC B", 3 GND (power) "Ground", 4 VOUTC (hiz) "Analog output voltage from DAC C", 5 VOUTD (hiz) "Analog output voltage from DAC D", 6 SCLK (in) "Serial clock input", 7 DIN (in) "Serial data input", 8 VDD (power) "Analog voltage supply input", 9 ~{SYNC} (in) "Frame synchronization input. The falling edge of the FS pulse indicates the start of a serial data frame shifted out to the DAC7554", 10 REFIN (in) "Analog input. External reference"

## DAC7554IDGSRG4
designator U?
Low-Power, Low-Glitch, 12-Bit DAC, -40 to 105 degC, 10-pin SOP (DGS10), Green (RoHS & no Sb/Br); Manufacturer: Texas Instruments; PartNumber: DAC7554IDGSRG4; DAC Channels: 4; DNL(Max)(+/-LSB): 0.5; INL(Max)(+/-LSB): 1; Interface: Serial SPI; Power Consumption(Typ)(mW): 3.5; Resolution(Bits): 12; Settling Time(us): 5; SubFamily: Precision DAC (=<10MSPS); DatasheetVersion: SLAS399A; PackageVersion: 4073272/C, 02/2004; PackageReference: DGS10; PackageDescription: 10-Pin Plastic Small Outline, Body 3 x 3 mm, Pitch 0.5 mm; Supplier 1: Digi-Key; Supplier Part Number 1: DAC7554IDGSRG4-ND; Supplier 2: Newark; Supplier Part Number 2: 58K5653; Supplier 3: Mouser; Supplier Part Number 3: 595-DAC7554IDGSRG4; Eco-Plan: Green (RoHS & no Sb/Br); Mounting Technology: Surface Mount; Code_JEDEC: MO-153; ComponentLink1Description: Manufacturer URL; ComponentLink1URL: http://www.ti.com/; ComponentLink2Description: Datasheet; ComponentLink2URL: http://www.ti.com/general/docs/lit/getliterature.tsp?genericPartNumber=DAC7554&fileType=pdf; ComponentLink3Description: Package Specification; ComponentLink3URL: http://www.ti.com/lit/ml/mpds035b/mpds035b.pdf
footprint TI-DGS10_N (SOP, 10-Leads, Body 3x3mm, Pitch 0.5mm, IPC Medium Density)
footprint TI-DGS10_L (SOP, 10-Leads, Body 3x3mm, Pitch 0.5mm, IPC High Density)
footprint TI-DGS10_M (SOP, 10-Leads, Body 3x3mm, Pitch 0.5mm, IPC Low Density)
pins: 1 VOUTA (hiz) "Analog output voltage from DAC A", 2 VOUTB (hiz) "Analog output voltage from DAC B", 3 GND (power) "Ground", 4 VOUTC (hiz) "Analog output voltage from DAC C", 5 VOUTD (hiz) "Analog output voltage from DAC D", 6 SCLK (in) "Serial clock input", 7 DIN (in) "Serial data input", 8 VDD (power) "Analog voltage supply input", 9 ~{SYNC} (in) "Frame synchronization input. The falling edge of the FS pulse indicates the start of a serial data frame shifted out to the DAC7554", 10 REFIN (in) "Analog input. External reference"

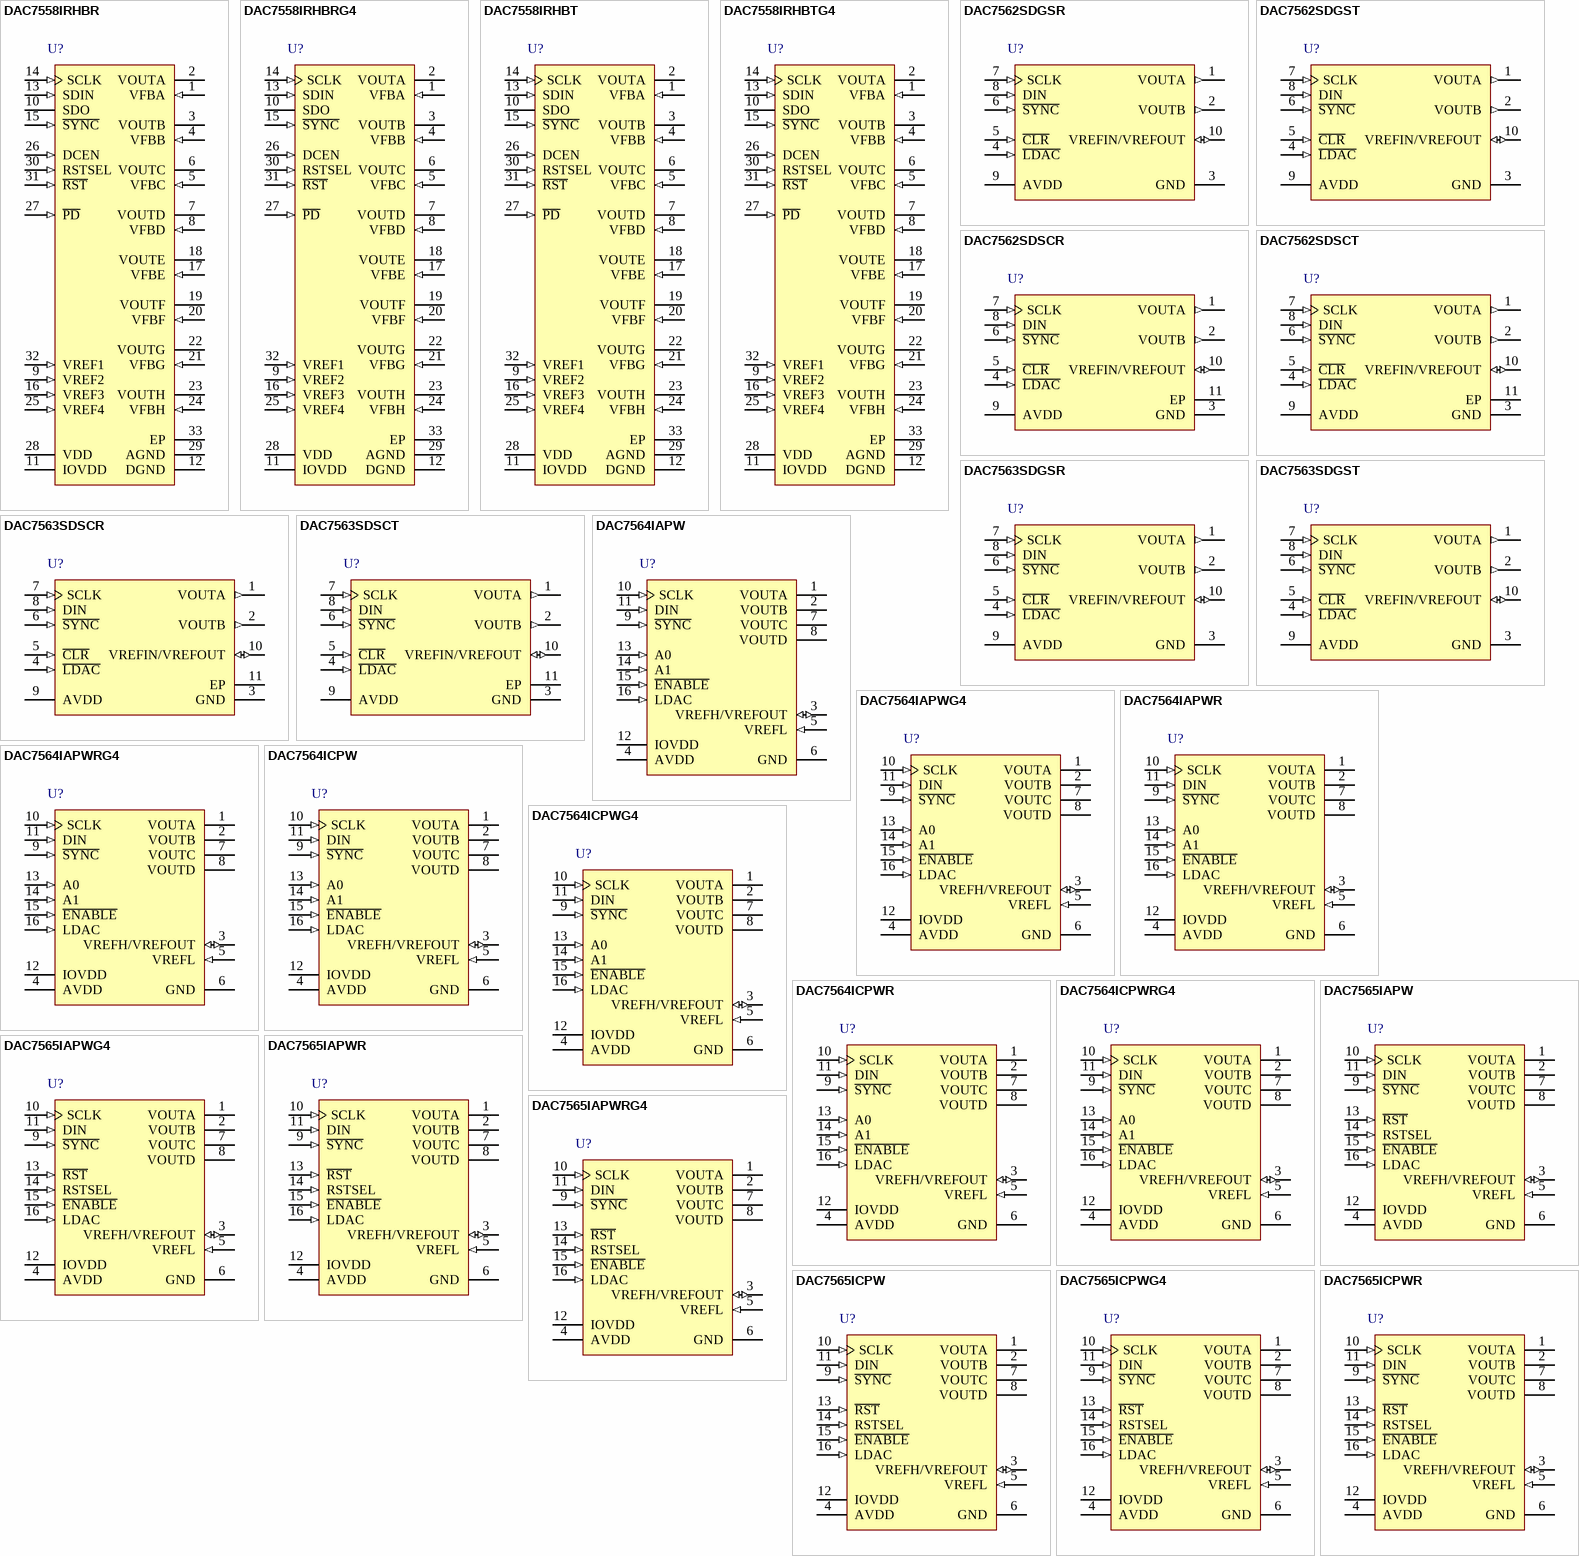
[diagram p24: symbols DAC7558IRHBR to DAC7565ICPWR]

## DAC7558IRHBR
designator U?
12-Bit, Octal, Ultralow Glitch, Voltage Output DAC, -40 to 105 degC, 32-pin QFN (RHB32), Green (RoHS & no Sb/Br); Manufacturer: Texas Instruments; PartNumber: DAC7558IRHBR; DAC Channels: 8; DNL(Max)(+/-LSB): 0.5; INL(Max)(+/-LSB): 1; Interface: Serial SPI; Power Consumption(Typ)(mW): 4.5; Resolution(Bits): 12; Settling Time(us): 5; SubFamily: Precision DAC (=<10MSPS); DatasheetVersion: SLAS435A; PackageVersion: 4204326/D, 06/2011; PackageReference: RHB32-3450X3450TP; PackageDescription: 32-Pin Plastic Flat Pack, Body 5 x 5 mm, Pitch 0.5 mm; Supplier 1: Digi-Key; Supplier Part Number 1: 296-18198-2-ND; Supplier 2: Digi-Key; Supplier Part Number 2: 296-18198-1-ND; Supplier 3: Digi-Key; Supplier Part Number 3: 296-18198-6-ND; Supplier 4: Newark; Supplier Part Number 4: 86W5978; Supplier 5: Newark; Supplier Part Number 5: 33K5129; Supplier 6: Mouser; Supplier Part Number 6: 595-DAC7558IRHBR; Eco-Plan: Green (RoHS & no Sb/Br); Mounting Technology: Surface Mount; Code_JEDEC: MO-220; ComponentLink1Description: Manufacturer URL; ComponentLink1URL: http://www.ti.com/; ComponentLink2Description: Datasheet; ComponentLink2URL: http://www.ti.com/general/docs/lit/getliterature.tsp?genericPartNumber=DAC7558&fileType=pdf; ComponentLink3Description: Package Specification; ComponentLink3URL: http://www.ti.com/lit/ml/mpqf130c/mpqf130c.pdf
footprint TI-RHB32-3450X3450TP_V (QFN, 32-Leads, Body 5x5mm, Pitch 0.5mm, Thermal Pad 3.45x3.45mm)
pins: 1 VFBA (in) "DAC A amplifier sense input", 2 VOUTA (hiz) "Analog output voltage from DAC A", 3 VOUTB (hiz) "Analog output voltage from DAC B", 4 VFBB (in) "DAC B amplifier sense input", 5 VFBC (in) "DAC C amplifier sense input", 6 VOUTC (hiz) "Analog output voltage from DAC C", 7 VOUTD (hiz) "Analog output voltage from DAC D", 8 VFBD (in) "DAC D amplifier sense input", 9 VREF2 (in) "Positive reference voltage input for DAC C and DAC D", 10 SDO (hiz) "Serial data output", 11 IOVDD (power) "I/O voltage supply input", 12 DGND (power) "Digital ground", 13 SDIN (in) "Serial data input", 14 SCLK (in) "Serial clock input", 15 ~{SYNC} (in) "Frame synchronization input. The falling edge of the SYNC pulse indicates the start of a serial data frame shifted out to the DAC7558.", 16 VREF3 (in) "Positive reference voltage input for DAC E and DAC F", 17 VFBE (in) "DAC E amplifier sense input", 18 VOUTE (hiz) "Analog output voltage from DAC E", 19 VOUTF (hiz) "Analog output voltage from DAC F", 20 VFBF (in) "DAC F amplifier sense input", 21 VFBG (in) "DAC G amplifier sense input", 22 VOUTG (hiz) "Analog output voltage from DAC G", 23 VOUTH (hiz) "Analog output voltage from DAC H", 24 VFBH (in) "DAC H amplifier sense input", 25 VREF4 (in) "Positive reference voltage input for DAC G and DAC H", 26 DCEN (in) "Daisy-chain enable", 27 ~{PD} (in) "Power down", 28 VDD (power) "Analog voltage supply input", 29 AGND (power) "Analog ground", 30 RSTSEL (in) "Reset select. If this pin is low, input coding is binary; if high, then 2s compliment.", 31 ~{RST} (in) "Asynchronous reset. Active low. If R\S\T\ pin is low, all DAC channels reset either to zero scale (RSTSEL = 0) or to midscale (RSTSEL = 1).", 32 VREF1 (in) "Positive reference voltage input for DAC A and DAC B", 33 EP (power) "Thermal pad should be connected to AGND."

## DAC7558IRHBRG4
designator U?
12-Bit, Octal, Ultralow Glitch, Voltage Output DAC, -40 to 105 degC, 32-pin QFN (RHB32), Green (RoHS & no Sb/Br); Manufacturer: Texas Instruments; PartNumber: DAC7558IRHBRG4; DAC Channels: 8; DNL(Max)(+/-LSB): 0.5; INL(Max)(+/-LSB): 1; Interface: Serial SPI; Power Consumption(Typ)(mW): 4.5; Resolution(Bits): 12; Settling Time(us): 5; SubFamily: Precision DAC (=<10MSPS); DatasheetVersion: SLAS435A; PackageVersion: 4204326/D, 06/2011; PackageReference: RHB32-3450X3450TP; PackageDescription: 32-Pin Plastic Flat Pack, Body 5 x 5 mm, Pitch 0.5 mm; Supplier 1: Digi-Key; Supplier Part Number 1: DAC7558IRHBRG4-ND; Supplier 2: Newark; Supplier Part Number 2: 70K1030; Supplier 3: Mouser; Supplier Part Number 3: 595-DAC7558IRHBRG4; Eco-Plan: Green (RoHS & no Sb/Br); Mounting Technology: Surface Mount; Code_JEDEC: MO-220; ComponentLink1Description: Manufacturer URL; ComponentLink1URL: http://www.ti.com/; ComponentLink2Description: Datasheet; ComponentLink2URL: http://www.ti.com/general/docs/lit/getliterature.tsp?genericPartNumber=DAC7558&fileType=pdf; ComponentLink3Description: Package Specification; ComponentLink3URL: http://www.ti.com/lit/ml/mpqf130c/mpqf130c.pdf
footprint TI-RHB32-3450X3450TP_V (QFN, 32-Leads, Body 5x5mm, Pitch 0.5mm, Thermal Pad 3.45x3.45mm)
pins: 1 VFBA (in) "DAC A amplifier sense input", 2 VOUTA (hiz) "Analog output voltage from DAC A", 3 VOUTB (hiz) "Analog output voltage from DAC B", 4 VFBB (in) "DAC B amplifier sense input", 5 VFBC (in) "DAC C amplifier sense input", 6 VOUTC (hiz) "Analog output voltage from DAC C", 7 VOUTD (hiz) "Analog output voltage from DAC D", 8 VFBD (in) "DAC D amplifier sense input", 9 VREF2 (in) "Positive reference voltage input for DAC C and DAC D", 10 SDO (hiz) "Serial data output", 11 IOVDD (power) "I/O voltage supply input", 12 DGND (power) "Digital ground", 13 SDIN (in) "Serial data input", 14 SCLK (in) "Serial clock input", 15 ~{SYNC} (in) "Frame synchronization input. The falling edge of the SYNC pulse indicates the start of a serial data frame shifted out to the DAC7558.", 16 VREF3 (in) "Positive reference voltage input for DAC E and DAC F", 17 VFBE (in) "DAC E amplifier sense input", 18 VOUTE (hiz) "Analog output voltage from DAC E", 19 VOUTF (hiz) "Analog output voltage from DAC F", 20 VFBF (in) "DAC F amplifier sense input", 21 VFBG (in) "DAC G amplifier sense input", 22 VOUTG (hiz) "Analog output voltage from DAC G", 23 VOUTH (hiz) "Analog output voltage from DAC H", 24 VFBH (in) "DAC H amplifier sense input", 25 VREF4 (in) "Positive reference voltage input for DAC G and DAC H", 26 DCEN (in) "Daisy-chain enable", 27 ~{PD} (in) "Power down", 28 VDD (power) "Analog voltage supply input", 29 AGND (power) "Analog ground", 30 RSTSEL (in) "Reset select. If this pin is low, input coding is binary; if high, then 2s compliment.", 31 ~{RST} (in) "Asynchronous reset. Active low. If R\S\T\ pin is low, all DAC channels reset either to zero scale (RSTSEL = 0) or to midscale (RSTSEL = 1).", 32 VREF1 (in) "Positive reference voltage input for DAC A and DAC B", 33 EP (power) "Thermal pad should be connected to AGND."

## DAC7558IRHBT
designator U?
12-Bit, Octal, Ultralow Glitch, Voltage Output DAC, -40 to 105 degC, 32-pin QFN (RHB32), Green (RoHS & no Sb/Br); Manufacturer: Texas Instruments; PartNumber: DAC7558IRHBT; DAC Channels: 8; DNL(Max)(+/-LSB): 0.5; INL(Max)(+/-LSB): 1; Interface: Serial SPI; Power Consumption(Typ)(mW): 4.5; Resolution(Bits): 12; Settling Time(us): 5; SubFamily: Precision DAC (=<10MSPS); DatasheetVersion: SLAS435A; PackageVersion: 4204326/D, 06/2011; PackageReference: RHB32-3450X3450TP; PackageDescription: 32-Pin Plastic Flat Pack, Body 5 x 5 mm, Pitch 0.5 mm; Supplier 1: Digi-Key; Supplier Part Number 1: 296-26046-2-ND; Supplier 2: Digi-Key; Supplier Part Number 2: 296-26046-1-ND; Supplier 3: Digi-Key; Supplier Part Number 3: 296-26046-6-ND; Supplier 4: Newark; Supplier Part Number 4: 33K5130; Supplier 5: Mouser; Supplier Part Number 5: 595-DAC7558IRHBT; Eco-Plan: Green (RoHS & no Sb/Br); Mounting Technology: Surface Mount; Code_JEDEC: MO-220; ComponentLink1Description: Manufacturer URL; ComponentLink1URL: http://www.ti.com/; ComponentLink2Description: Datasheet; ComponentLink2URL: http://www.ti.com/general/docs/lit/getliterature.tsp?genericPartNumber=DAC7558&fileType=pdf; ComponentLink3Description: Package Specification; ComponentLink3URL: http://www.ti.com/lit/ml/mpqf130c/mpqf130c.pdf
footprint TI-RHB32-3450X3450TP_V (QFN, 32-Leads, Body 5x5mm, Pitch 0.5mm, Thermal Pad 3.45x3.45mm)
pins: 1 VFBA (in) "DAC A amplifier sense input", 2 VOUTA (hiz) "Analog output voltage from DAC A", 3 VOUTB (hiz) "Analog output voltage from DAC B", 4 VFBB (in) "DAC B amplifier sense input", 5 VFBC (in) "DAC C amplifier sense input", 6 VOUTC (hiz) "Analog output voltage from DAC C", 7 VOUTD (hiz) "Analog output voltage from DAC D", 8 VFBD (in) "DAC D amplifier sense input", 9 VREF2 (in) "Positive reference voltage input for DAC C and DAC D", 10 SDO (hiz) "Serial data output", 11 IOVDD (power) "I/O voltage supply input", 12 DGND (power) "Digital ground", 13 SDIN (in) "Serial data input", 14 SCLK (in) "Serial clock input", 15 ~{SYNC} (in) "Frame synchronization input. The falling edge of the SYNC pulse indicates the start of a serial data frame shifted out to the DAC7558.", 16 VREF3 (in) "Positive reference voltage input for DAC E and DAC F", 17 VFBE (in) "DAC E amplifier sense input", 18 VOUTE (hiz) "Analog output voltage from DAC E", 19 VOUTF (hiz) "Analog output voltage from DAC F", 20 VFBF (in) "DAC F amplifier sense input", 21 VFBG (in) "DAC G amplifier sense input", 22 VOUTG (hiz) "Analog output voltage from DAC G", 23 VOUTH (hiz) "Analog output voltage from DAC H", 24 VFBH (in) "DAC H amplifier sense input", 25 VREF4 (in) "Positive reference voltage input for DAC G and DAC H", 26 DCEN (in) "Daisy-chain enable", 27 ~{PD} (in) "Power down", 28 VDD (power) "Analog voltage supply input", 29 AGND (power) "Analog ground", 30 RSTSEL (in) "Reset select. If this pin is low, input coding is binary; if high, then 2s compliment.", 31 ~{RST} (in) "Asynchronous reset. Active low. If R\S\T\ pin is low, all DAC channels reset either to zero scale (RSTSEL = 0) or to midscale (RSTSEL = 1).", 32 VREF1 (in) "Positive reference voltage input for DAC A and DAC B", 33 EP (power) "Thermal pad should be connected to AGND."